# EAGLE library part LSM6DSV16X (library lsm6dsv16x)
STMicroelectronic's LSM6DSV16X 6DoF The LSM6DSV16X is a high-performance, low-power 6-axis IMU, featuring a 3-axis digital accelerometer and a 3-axis digital gyroscope, with a triple core for processing acceleration and angular rate data on three separate channels (user interface, OIS, and EIS) with dedicated configuration, processing, and filtering. The LSM6DSV16X enables processes in edge computing, leveraging embedded advanced dedicated features such as a finite state machine (FSM) for configurable motion tracking and a machine learning core (MLC) for contextual awareness with exportable AI features for IoT applications. The LSM6DSV16X embeds Qvar (electric charge variation detection) for user interface functions like tap, double tap, triple tap, long press, or L/R – R/L swipe. The LSM6DSV16X embeds an analog hub able to connect an external analog input and convert it to a digital signal for processing. Product Page <https://www.st.com/en/mems-and-sensors/lsm6dsv16x.html#overview>
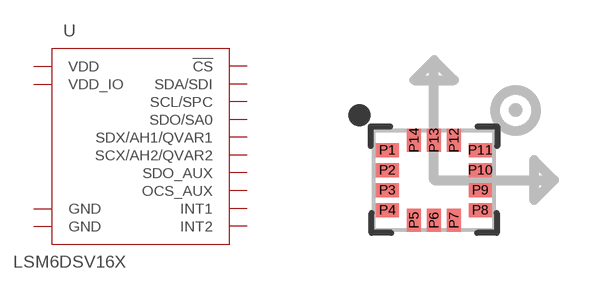
[diagram p0: symbol with the pads of LGA-14L; footprint LGA-14L]

Designator prefix U

## LSM6DSV16X (PROD_ID: IC-17274)  [LGA-14L]
P1  SDO/SA0
P2  SDX/AH1/QVAR1
P3  SCX/AH2/QVAR2
P4  INT1
P5  VDD_IO  pwr
P6  GND  pwr
P7  GND  pwr
P8  VDD  pwr
P9  INT2
P10  OCS_AUX
P11  SDO_AUX
P12  !CS!
P13  SCL/SPC
P14  SDA/SDI

## Footprint LGA-14L (pad centres in mm)
LGA-14L Mechanical Specifications: Pad Size: .475mm x .25mm Pin count: 14 Pin pitch: .5mm Package Size: 3mm x 2.5mm Datasheet referenced for footprint <https://www.st.com/en/mems-and-sensors/lsm6dsv16x.html#overview>
smd 0.575 x 0.35: P1 -1.163,0.75; P2 -1.163,0.25; P3 -1.163,-0.25; P4 -1.163,-0.75; P8 1.163,-0.75; P9 1.163,-0.25; P10 1.163,0.25; P11 1.163,0.75
smd 0.35 x 0.575: P5 -0.5,-1; P6 0,-1; P7 0.5,-1; P12 0.5,1; P13 0,1; P14 -0.5,1